# EAGLE library part MAX882/883/884 (library MAX882_883_884)
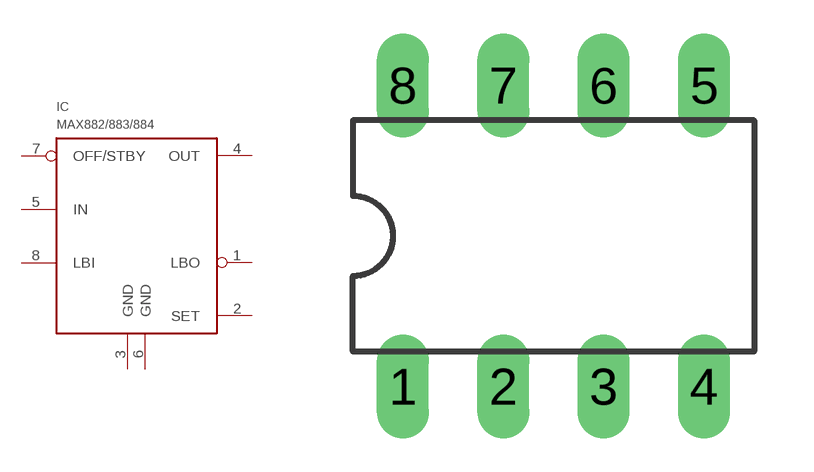
[diagram p0: symbol with the pads of DIL08; footprint DIL08]

Designator prefix IC

## MAX882/883/884  [DIL08]
1  LBO  oc
2  SET  pas
3  GND  pwr
4  OUT  pwr
5  IN  pwr
6  GND  pwr
7  OFF/STBY  pas
8  LBI  pas

## Footprint DIL08 (pad centres in mm)
Dual In Line Package
drill 0.813 long: 1 -3.81,-3.81; 2 -1.27,-3.81; 3 1.27,-3.81; 4 3.81,-3.81; 5 3.81,3.81; 6 1.27,3.81; 7 -1.27,3.81; 8 -3.81,3.81